# Altium schematic symbol library RES.SCHLIB: 16 symbols
Pins are listed as number, name and electrical type; pins without a type are passive.

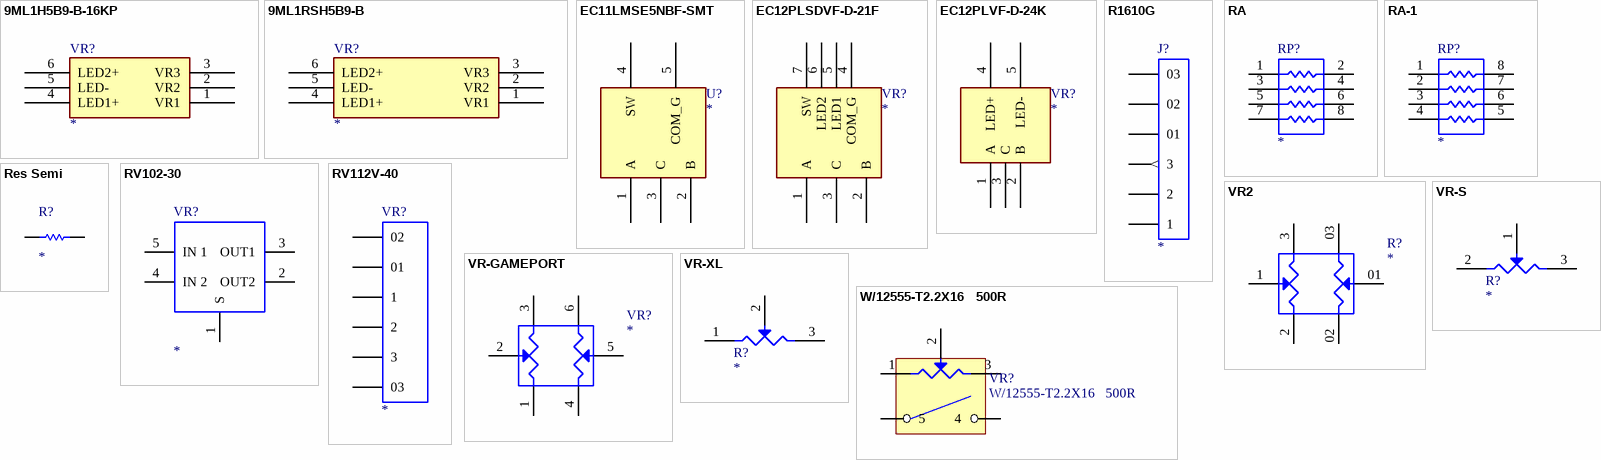
[diagram p0: symbols 9ML1H5B9-B-16KP to W/12555-T2.2X16   500R]

## 9ML1H5B9-B-16KP
designator VR?
footprint 9ML1H5B9-B-16KP
pins: 1 VR1, 2 VR2, 3 VR3, 4 LED1+, 5 LED-, 6 LED2+
2 alternate drawings of the same symbol

## 9ML1RSH5B9-B
designator VR?
footprint 9ML1RSH5B9-B
pins: 1 VR1, 2 VR2, 3 VR3, 4 LED1+, 5 LED-, 6 LED2+
2 alternate drawings of the same symbol

## EC11LMSE5NBF-SMT
designator U?
footprint EC11LMSE5NBF-SMT
pins: 1 A, 2 B, 3 C, 4 SW, 5 COM_G
2 alternate drawings of the same symbol

## EC12PLSDVF-D-21F
designator VR?
footprint EC12PLSDVF-D-21F
pins: 1 A, 2 B, 3 C, 4 COM_G, 5 LED1, 6 LED2, 7 SW
2 alternate drawings of the same symbol

## EC12PLVF-D-24K
designator VR?
footprint EC12PLVF-D-24K
pins: 1 A, 2 B, 3 C, 4 LED+, 5 LED-
2 alternate drawings of the same symbol

## R1610G
designator J?
Connector
footprint R1610G
pins: 01, 1, 02, 2, 03, 3 (out)

## RA
designator RP?
footprint RA-0603
pins: 1, 2, 3, 4, 5, 6, 7, 8

## RA-1
designator RP?
footprint RA-0603-1
pins: 1, 2, 3, 4, 5, 6, 7, 8

## Res Semi
designator R?
footprint 0402
footprint 0805
footprint 1206
footprint DLR
pins: 1, 2

## RV102-30
designator VR?
10mm Mico Potentiometer VR
footprint RV102-30
pins: 1 S, 2 OUT2, 3 OUT1, 4 IN 2, 5 IN 1

## RV112V-40
designator VR?
footprint RV112B-40
pins: 01, 1, 02, 2, 3, 03

## VR2
designator R?
Potentiometer
pins: 1, 01, 2, 02, 3, 03

## VR-GAMEPORT
designator VR?
Potentiometer
footprint VR-GAMEPORT
pins: 1, 2, 3, 4, 5, 6

## VR-S
designator R?
Potentiometer
pins: 1, 2, 3

## VR-XL
designator R?
Potentiometer
pins: 1, 2, 3

## W/12555-T2.2X16   500R
designator VR?
Potentiometer
footprint VR-3PIN-SW -W12555-new
pins: 1, 2, 3, 4, 5